# EAGLE library part CSD17575Q3T (library CSD17575Q3T)
30V, N ch NexFET MOSFET, single SON3x3, 3.2mOhm Source: Datasheet <http://www.ti.com/lit/gpn/CSD17575Q3>
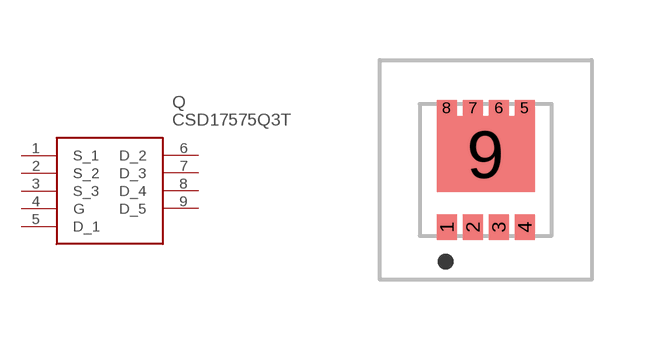
[diagram p0: symbol with the pads of CSD17575Q3T; footprint CSD17575Q3T]

Designator prefix Q

## CSD17575Q3T (Description: 30V, N ch NexFET MOSFET, single SON3x3, 3.2mOhm; Height: 1.1mm; Manufacturer_Name: Texas Instruments; Manufacturer_Part_Number: CSD17575Q3T; Mouser_Part_Number: 595-CSD17575Q3T; Mouser_Price-Stock: https://www.mouser.co.uk/ProductDetail/Texas-Instruments/CSD17575Q3T?qs=1MXlzafEN3%252BV4dVr3K7EZA%3D%3D)  [CSD17575Q3T]
1  S_1
2  S_2
3  S_3
4  G
5  D_1
6  D_2
7  D_3
8  D_4
9  D_5

## Footprint CSD17575Q3T (pad centres in mm)
CSD17575Q3T-3
smd 0.5 x 0.63: 1 -0.975,-1.435; 2 -0.325,-1.435; 3 0.325,-1.435; 4 0.975,-1.435
smd 0.5 x 0.41: 5 0.975,1.545; 6 0.325,1.545; 7 -0.325,1.545; 8 -0.975,1.545
smd 2.45 x 1.9: 9 0,0.39